# EAGLE library part MK66FX1M0VLQ18 (library Carroll's Parts)
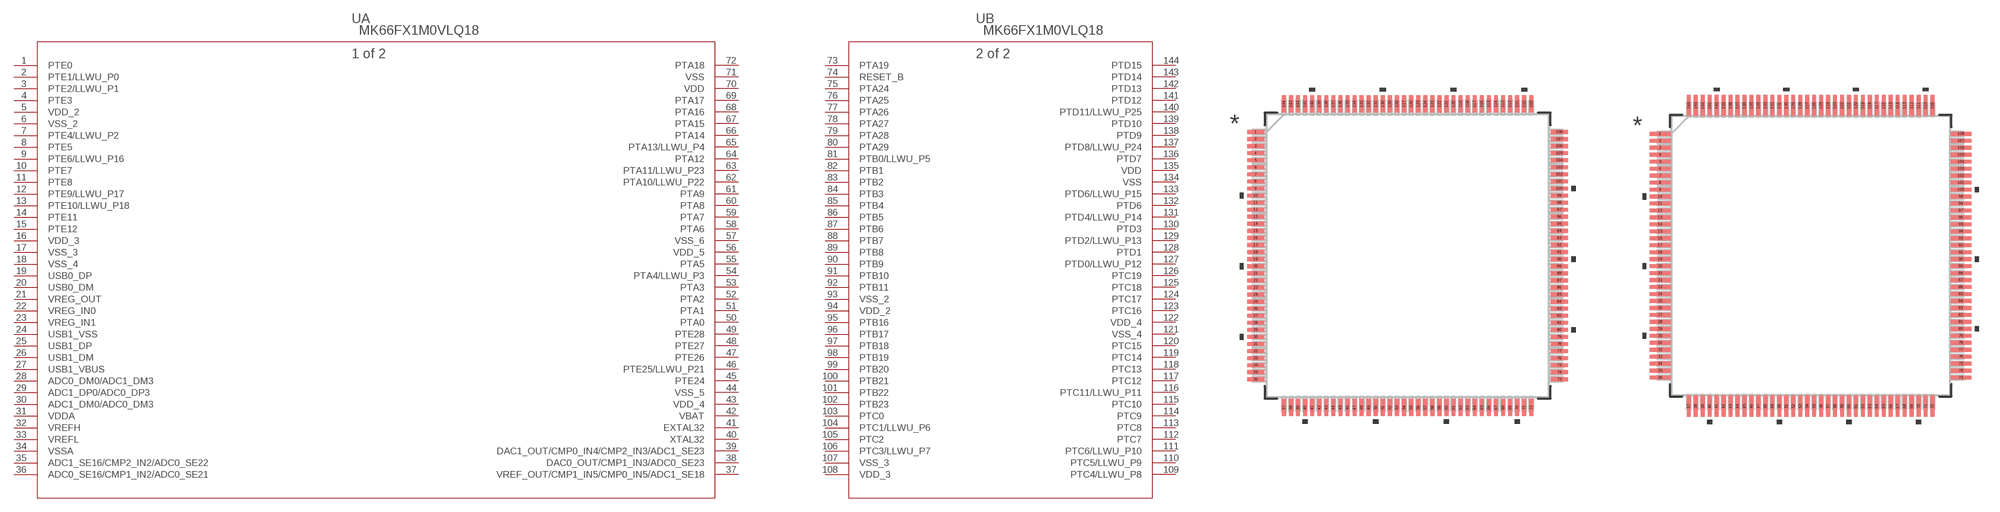
[diagram p7: symbol with the pads of 98ASS23177W; footprints 98ASS23177W, 98ASS23177W-M]

Designator prefix U; gates A=MK66FX1M0VLQ18_A B=MK66FX1M0VLQ18_B

## MK66FX1M0VLQ18 (MANUFACTURER_PART_NUMBER: mk66fx1m0vlq18; VENDOR: Freescale)  [98ASS23177W]
1  A:PTE0  pas
2  A:PTE1/LLWU_P0  pas
3  A:PTE2/LLWU_P1  pas
4  A:PTE3  pas
5  A:VDD_2  pwr
6  A:VSS_2  pwr
7  A:PTE4/LLWU_P2  pas
8  A:PTE5  pas
9  A:PTE6/LLWU_P16  pas
10  A:PTE7  pas
11  A:PTE8  pas
12  A:PTE9/LLWU_P17  pas
13  A:PTE10/LLWU_P18  pas
14  A:PTE11  pas
15  A:PTE12  pas
16  A:VDD_3  pwr
17  A:VSS_3  pwr
18  A:VSS_4  pwr
19  A:USB0_DP  pas
20  A:USB0_DM  pas
21  A:VREG_OUT  out
22  A:VREG_IN0  in
23  A:VREG_IN1  in
24  A:USB1_VSS  pwr
25  A:USB1_DP  pas
26  A:USB1_DM  pas
27  A:USB1_VBUS  pas
28  A:ADC0_DM0/ADC1_DM3  pas
29  A:ADC1_DP0/ADC0_DP3  pas
30  A:ADC1_DM0/ADC0_DM3  pas
31  A:VDDA  pwr
32  A:VREFH  pwr
33  A:VREFL  pwr
34  A:VSSA  pwr
35  A:ADC1_SE16/CMP2_IN2/ADC0_SE22  pas
36  A:ADC0_SE16/CMP1_IN2/ADC0_SE21  pas
37  A:VREF_OUT/CMP1_IN5/CMP0_IN5/ADC1_SE18  pas
38  A:DAC0_OUT/CMP1_IN3/ADC0_SE23  pas
39  A:DAC1_OUT/CMP0_IN4/CMP2_IN3/ADC1_SE23  pas
40  A:XTAL32  pas
41  A:EXTAL32  pas
42  A:VBAT  pwr
43  A:VDD_4  pwr
44  A:VSS_5  pwr
45  A:PTE24  pas
46  A:PTE25/LLWU_P21  pas
47  A:PTE26  pas
48  A:PTE27  pas
49  A:PTE28  pas
50  A:PTA0  pas
51  A:PTA1  pas
52  A:PTA2  pas
53  A:PTA3  pas
54  A:PTA4/LLWU_P3  pas
55  A:PTA5  pas
56  A:VDD_5  pwr
57  A:VSS_6  pwr
58  A:PTA6  pas
59  A:PTA7  pas
60  A:PTA8  pas
61  A:PTA9  pas
62  A:PTA10/LLWU_P22  pas
63  A:PTA11/LLWU_P23  pas
64  A:PTA12  pas
65  A:PTA13/LLWU_P4  pas
66  A:PTA14  pas
67  A:PTA15  pas
68  A:PTA16  pas
69  A:PTA17  pas
70  A:VDD  pwr
71  A:VSS  pwr
72  A:PTA18  pas
73  B:PTA19  pas
74  B:RESET_B  pas
75  B:PTA24  pas
76  B:PTA25  pas
77  B:PTA26  pas
78  B:PTA27  pas
79  B:PTA28  pas
80  B:PTA29  pas
81  B:PTB0/LLWU_P5  pas
82  B:PTB1  pas
83  B:PTB2  pas
84  B:PTB3  pas
85  B:PTB4  pas
86  B:PTB5  pas
87  B:PTB6  pas
88  B:PTB7  pas
89  B:PTB8  pas
90  B:PTB9  pas
91  B:PTB10  pas
92  B:PTB11  pas
93  B:VSS_2  pwr
94  B:VDD_2  pwr
95  B:PTB16  pas
96  B:PTB17  pas
97  B:PTB18  pas
98  B:PTB19  pas
99  B:PTB20  pas
100  B:PTB21  pas
101  B:PTB22  pas
102  B:PTB23  pas
103  B:PTC0  pas
104  B:PTC1/LLWU_P6  pas
105  B:PTC2  pas
106  B:PTC3/LLWU_P7  pas
107  B:VSS_3  pwr
108  B:VDD_3  pwr
109  B:PTC4/LLWU_P8  pas
110  B:PTC5/LLWU_P9  pas
111  B:PTC6/LLWU_P10  pas
112  B:PTC7  pas
113  B:PTC8  pas
114  B:PTC9  pas
115  B:PTC10  pas
116  B:PTC11/LLWU_P11  pas
117  B:PTC12  pas
118  B:PTC13  pas
119  B:PTC14  pas
120  B:PTC15  pas
121  B:VSS_4  pwr
122  B:VDD_4  pwr
123  B:PTC16  pas
124  B:PTC17  pas
125  B:PTC18  pas
126  B:PTC19  pas
127  B:PTD0/LLWU_P12  pas
128  B:PTD1  pas
129  B:PTD2/LLWU_P13  pas
130  B:PTD3  pas
131  B:PTD4/LLWU_P14  pas
132  B:PTD6  pas
133  B:PTD6/LLWU_P15  pas
134  B:VSS  pwr
135  B:VDD  pwr
136  B:PTD7  pas
137  B:PTD8/LLWU_P24  pas
138  B:PTD9  pas
139  B:PTD10  pas
140  B:PTD11/LLWU_P25  pas
141  B:PTD12  pas
142  B:PTD13  pas
143  B:PTD14  pas
144  B:PTD15  pas

## MK66FX1M0VLQ1898ASS23177W-M (MANUFACTURER_PART_NUMBER: mk66fx1m0vlq18; VENDOR: Freescale)  [98ASS23177W-M]
Pads as for 98ASS23177W

## MK66FX1M0VLQ1898ASS23177W-L (MANUFACTURER_PART_NUMBER: mk66fx1m0vlq18; VENDOR: Freescale)  [98ASS23177W-L]
Pads as for 98ASS23177W

## Footprint 98ASS23177W (pad centres in mm)
smd 1.219 x 0.279: 1 -10.744,8.75; 2 -10.744,8.25; 3 -10.744,7.75; 4 -10.744,7.25; 5 -10.744,6.75; 6 -10.744,6.25; 7 -10.744,5.75; 8 -10.744,5.25; 9 -10.744,4.75; 10 -10.744,4.25; 11 -10.744,3.75; 12 -10.744,3.25; 13 -10.744,2.75; 14 -10.744,2.25; 15 -10.744,1.75; 16 -10.744,1.25; 17 -10.744,0.75; 18 -10.744,0.25; 19 -10.744,-0.25; 20 -10.744,-0.75; 21 -10.744,-1.25; 22 -10.744,-1.75; 23 -10.744,-2.25; 24 -10.744,-2.75; 25 -10.744,-3.25; 26 -10.744,-3.75; 27 -10.744,-4.25; 28 -10.744,-4.75; 29 -10.744,-5.25; 30 -10.744,-5.75; 31 -10.744,-6.25; 32 -10.744,-6.75; 33 -10.744,-7.25; 34 -10.744,-7.75; 35 -10.744,-8.25; 36 -10.744,-8.75; 73 10.744,-8.75; 74 10.744,-8.25; 75 10.744,-7.75; 76 10.744,-7.25; 77 10.744,-6.75; 78 10.744,-6.25; 79 10.744,-5.75; 80 10.744,-5.25; 81 10.744,-4.75; 82 10.744,-4.25; 83 10.744,-3.75; 84 10.744,-3.25; 85 10.744,-2.75; 86 10.744,-2.25; 87 10.744,-1.75; 88 10.744,-1.25; 89 10.744,-0.75; 90 10.744,-0.25; 91 10.744,0.25; 92 10.744,0.75; 93 10.744,1.25; 94 10.744,1.75; 95 10.744,2.25; 96 10.744,2.75; 97 10.744,3.25; 98 10.744,3.75; 99 10.744,4.25; 100 10.744,4.75; 101 10.744,5.25; 102 10.744,5.75; 103 10.744,6.25; 104 10.744,6.75; 105 10.744,7.25; 106 10.744,7.75; 107 10.744,8.25; 108 10.744,8.75
smd 0.279 x 1.219: 37 -8.75,-10.744; 38 -8.25,-10.744; 39 -7.75,-10.744; 40 -7.25,-10.744; 41 -6.75,-10.744; 42 -6.25,-10.744; 43 -5.75,-10.744; 44 -5.25,-10.744; 45 -4.75,-10.744; 46 -4.25,-10.744; 47 -3.75,-10.744; 48 -3.25,-10.744; 49 -2.75,-10.744; 50 -2.25,-10.744; 51 -1.75,-10.744; 52 -1.25,-10.744; 53 -0.75,-10.744; 54 -0.25,-10.744; 55 0.25,-10.744; 56 0.75,-10.744; 57 1.25,-10.744; 58 1.75,-10.744; 59 2.25,-10.744; 60 2.75,-10.744; 61 3.25,-10.744; 62 3.75,-10.744; 63 4.25,-10.744; 64 4.75,-10.744; 65 5.25,-10.744; 66 5.75,-10.744; 67 6.25,-10.744; 68 6.75,-10.744; 69 7.25,-10.744; 70 7.75,-10.744; 71 8.25,-10.744; 72 8.75,-10.744; 109 8.75,10.744; 110 8.25,10.744; 111 7.75,10.744; 112 7.25,10.744; 113 6.75,10.744; 114 6.25,10.744; 115 5.75,10.744; 116 5.25,10.744; 117 4.75,10.744; 118 4.25,10.744; 119 3.75,10.744; 120 3.25,10.744; 121 2.75,10.744; 122 2.25,10.744; 123 1.75,10.744; 124 1.25,10.744; 125 0.75,10.744; 126 0.25,10.744; 127 -0.25,10.744; 128 -0.75,10.744; 129 -1.25,10.744; 130 -1.75,10.744; 131 -2.25,10.744; 132 -2.75,10.744; 133 -3.25,10.744; 134 -3.75,10.744; 135 -4.25,10.744; 136 -4.75,10.744; 137 -5.25,10.744; 138 -5.75,10.744; 139 -6.25,10.744; 140 -6.75,10.744; 141 -7.25,10.744; 142 -7.75,10.744; 143 -8.25,10.744; 144 -8.75,10.744

## Footprint 98ASS23177W-M (pad centres in mm)
smd 1.524 x 0.279: 1 -10.795,8.75; 2 -10.795,8.25; 3 -10.795,7.75; 4 -10.795,7.25; 5 -10.795,6.75; 6 -10.795,6.25; 7 -10.795,5.75; 8 -10.795,5.25; 9 -10.795,4.75; 10 -10.795,4.25; 11 -10.795,3.75; 12 -10.795,3.25; 13 -10.795,2.75; 14 -10.795,2.25; 15 -10.795,1.75; 16 -10.795,1.25; 17 -10.795,0.75; 18 -10.795,0.25; 19 -10.795,-0.25; 20 -10.795,-0.75; 21 -10.795,-1.25; 22 -10.795,-1.75; 23 -10.795,-2.25; 24 -10.795,-2.75; 25 -10.795,-3.25; 26 -10.795,-3.75; 27 -10.795,-4.25; 28 -10.795,-4.75; 29 -10.795,-5.25; 30 -10.795,-5.75; 31 -10.795,-6.25; 32 -10.795,-6.75; 33 -10.795,-7.25; 34 -10.795,-7.75; 35 -10.795,-8.25; 36 -10.795,-8.75; 73 10.795,-8.75; 74 10.795,-8.25; 75 10.795,-7.75; 76 10.795,-7.25; 77 10.795,-6.75; 78 10.795,-6.25; 79 10.795,-5.75; 80 10.795,-5.25; 81 10.795,-4.75; 82 10.795,-4.25; 83 10.795,-3.75; 84 10.795,-3.25; 85 10.795,-2.75; 86 10.795,-2.25; 87 10.795,-1.75; 88 10.795,-1.25; 89 10.795,-0.75; 90 10.795,-0.25; 91 10.795,0.25; 92 10.795,0.75; 93 10.795,1.25; 94 10.795,1.75; 95 10.795,2.25; 96 10.795,2.75; 97 10.795,3.25; 98 10.795,3.75; 99 10.795,4.25; 100 10.795,4.75; 101 10.795,5.25; 102 10.795,5.75; 103 10.795,6.25; 104 10.795,6.75; 105 10.795,7.25; 106 10.795,7.75; 107 10.795,8.25; 108 10.795,8.75
smd 0.279 x 1.524: 37 -8.75,-10.795; 38 -8.25,-10.795; 39 -7.75,-10.795; 40 -7.25,-10.795; 41 -6.75,-10.795; 42 -6.25,-10.795; 43 -5.75,-10.795; 44 -5.25,-10.795; 45 -4.75,-10.795; 46 -4.25,-10.795; 47 -3.75,-10.795; 48 -3.25,-10.795; 49 -2.75,-10.795; 50 -2.25,-10.795; 51 -1.75,-10.795; 52 -1.25,-10.795; 53 -0.75,-10.795; 54 -0.25,-10.795; 55 0.25,-10.795; 56 0.75,-10.795; 57 1.25,-10.795; 58 1.75,-10.795; 59 2.25,-10.795; 60 2.75,-10.795; 61 3.25,-10.795; 62 3.75,-10.795; 63 4.25,-10.795; 64 4.75,-10.795; 65 5.25,-10.795; 66 5.75,-10.795; 67 6.25,-10.795; 68 6.75,-10.795; 69 7.25,-10.795; 70 7.75,-10.795; 71 8.25,-10.795; 72 8.75,-10.795; 109 8.75,10.795; 110 8.25,10.795; 111 7.75,10.795; 112 7.25,10.795; 113 6.75,10.795; 114 6.25,10.795; 115 5.75,10.795; 116 5.25,10.795; 117 4.75,10.795; 118 4.25,10.795; 119 3.75,10.795; 120 3.25,10.795; 121 2.75,10.795; 122 2.25,10.795; 123 1.75,10.795; 124 1.25,10.795; 125 0.75,10.795; 126 0.25,10.795; 127 -0.25,10.795; 128 -0.75,10.795; 129 -1.25,10.795; 130 -1.75,10.795; 131 -2.25,10.795; 132 -2.75,10.795; 133 -3.25,10.795; 134 -3.75,10.795; 135 -4.25,10.795; 136 -4.75,10.795; 137 -5.25,10.795; 138 -5.75,10.795; 139 -6.25,10.795; 140 -6.75,10.795; 141 -7.25,10.795; 142 -7.75,10.795; 143 -8.25,10.795; 144 -8.75,10.795

## Footprint 98ASS23177W-L (pad centres in mm)
smd 0.914 x 0.279: 1 -10.693,8.75; 2 -10.693,8.25; 3 -10.693,7.75; 4 -10.693,7.25; 5 -10.693,6.75; 6 -10.693,6.25; 7 -10.693,5.75; 8 -10.693,5.25; 9 -10.693,4.75; 10 -10.693,4.25; 11 -10.693,3.75; 12 -10.693,3.25; 13 -10.693,2.75; 14 -10.693,2.25; 15 -10.693,1.75; 16 -10.693,1.25; 17 -10.693,0.75; 18 -10.693,0.25; 19 -10.693,-0.25; 20 -10.693,-0.75; 21 -10.693,-1.25; 22 -10.693,-1.75; 23 -10.693,-2.25; 24 -10.693,-2.75; 25 -10.693,-3.25; 26 -10.693,-3.75; 27 -10.693,-4.25; 28 -10.693,-4.75; 29 -10.693,-5.25; 30 -10.693,-5.75; 31 -10.693,-6.25; 32 -10.693,-6.75; 33 -10.693,-7.25; 34 -10.693,-7.75; 35 -10.693,-8.25; 36 -10.693,-8.75; 73 10.693,-8.75; 74 10.693,-8.25; 75 10.693,-7.75; 76 10.693,-7.25; 77 10.693,-6.75; 78 10.693,-6.25; 79 10.693,-5.75; 80 10.693,-5.25; 81 10.693,-4.75; 82 10.693,-4.25; 83 10.693,-3.75; 84 10.693,-3.25; 85 10.693,-2.75; 86 10.693,-2.25; 87 10.693,-1.75; 88 10.693,-1.25; 89 10.693,-0.75; 90 10.693,-0.25; 91 10.693,0.25; 92 10.693,0.75; 93 10.693,1.25; 94 10.693,1.75; 95 10.693,2.25; 96 10.693,2.75; 97 10.693,3.25; 98 10.693,3.75; 99 10.693,4.25; 100 10.693,4.75; 101 10.693,5.25; 102 10.693,5.75; 103 10.693,6.25; 104 10.693,6.75; 105 10.693,7.25; 106 10.693,7.75; 107 10.693,8.25; 108 10.693,8.75
smd 0.279 x 0.914: 37 -8.75,-10.693; 38 -8.25,-10.693; 39 -7.75,-10.693; 40 -7.25,-10.693; 41 -6.75,-10.693; 42 -6.25,-10.693; 43 -5.75,-10.693; 44 -5.25,-10.693; 45 -4.75,-10.693; 46 -4.25,-10.693; 47 -3.75,-10.693; 48 -3.25,-10.693; 49 -2.75,-10.693; 50 -2.25,-10.693; 51 -1.75,-10.693; 52 -1.25,-10.693; 53 -0.75,-10.693; 54 -0.25,-10.693; 55 0.25,-10.693; 56 0.75,-10.693; 57 1.25,-10.693; 58 1.75,-10.693; 59 2.25,-10.693; 60 2.75,-10.693; 61 3.25,-10.693; 62 3.75,-10.693; 63 4.25,-10.693; 64 4.75,-10.693; 65 5.25,-10.693; 66 5.75,-10.693; 67 6.25,-10.693; 68 6.75,-10.693; 69 7.25,-10.693; 70 7.75,-10.693; 71 8.25,-10.693; 72 8.75,-10.693; 109 8.75,10.693; 110 8.25,10.693; 111 7.75,10.693; 112 7.25,10.693; 113 6.75,10.693; 114 6.25,10.693; 115 5.75,10.693; 116 5.25,10.693; 117 4.75,10.693; 118 4.25,10.693; 119 3.75,10.693; 120 3.25,10.693; 121 2.75,10.693; 122 2.25,10.693; 123 1.75,10.693; 124 1.25,10.693; 125 0.75,10.693; 126 0.25,10.693; 127 -0.25,10.693; 128 -0.75,10.693; 129 -1.25,10.693; 130 -1.75,10.693; 131 -2.25,10.693; 132 -2.75,10.693; 133 -3.25,10.693; 134 -3.75,10.693; 135 -4.25,10.693; 136 -4.75,10.693; 137 -5.25,10.693; 138 -5.75,10.693; 139 -6.25,10.693; 140 -6.75,10.693; 141 -7.25,10.693; 142 -7.75,10.693; 143 -8.25,10.693; 144 -8.75,10.693